# EAGLE library part AS5048A (library ASL)
A hall-effect encoder by Austria Micro. Provides 14-bit resolution of the absolute angle of a rotary magnet.
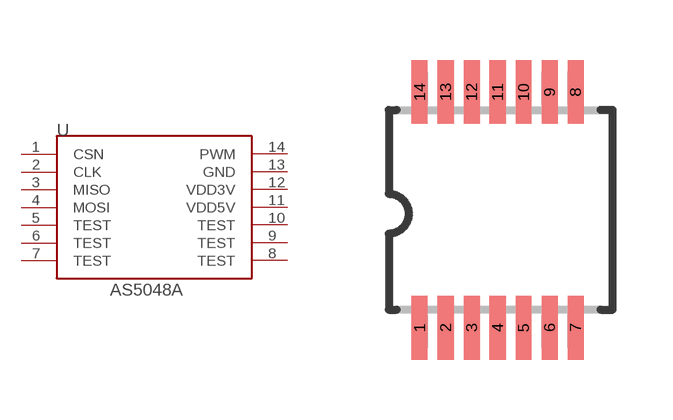
[diagram p28: symbol with the pads of TSSOP14; footprint TSSOP14]

Designator prefix -

## AS5048A  [TSSOP14]
1  CSN
2  CLK
3  MISO
4  MOSI
5  TEST
6  TEST
7  TEST
8  TEST
9  TEST
10  TEST
11  VDD5V
12  VDD3V
13  GND
14  PWM

## Footprint TSSOP14 (pad centres in mm)
TSOP14 thin small outline package
smd 0.4 x 1.6: 1 -2.025,-2.95; 2 -1.375,-2.95; 3 -0.725,-2.95; 4 -0.075,-2.95; 5 0.575,-2.95; 6 1.225,-2.95; 7 1.875,-2.95; 8 1.875,2.95; 9 1.225,2.95; 10 0.575,2.95; 11 -0.075,2.95; 12 -0.725,2.95; 13 -1.375,2.95; 14 -2.025,2.95